# Altium footprint library 0533980471.PcbLib: 1 footprints
Each footprint in its own frame and in the unit in brackets; x right, y up, seen from the top. Pads: shape width x height; smd on the part's side, far side on the other; paste and mask are expansions set on the pad; w line width, h text height; cw(c..) or ccw(c..) is an arc to the next point about the centre after c.
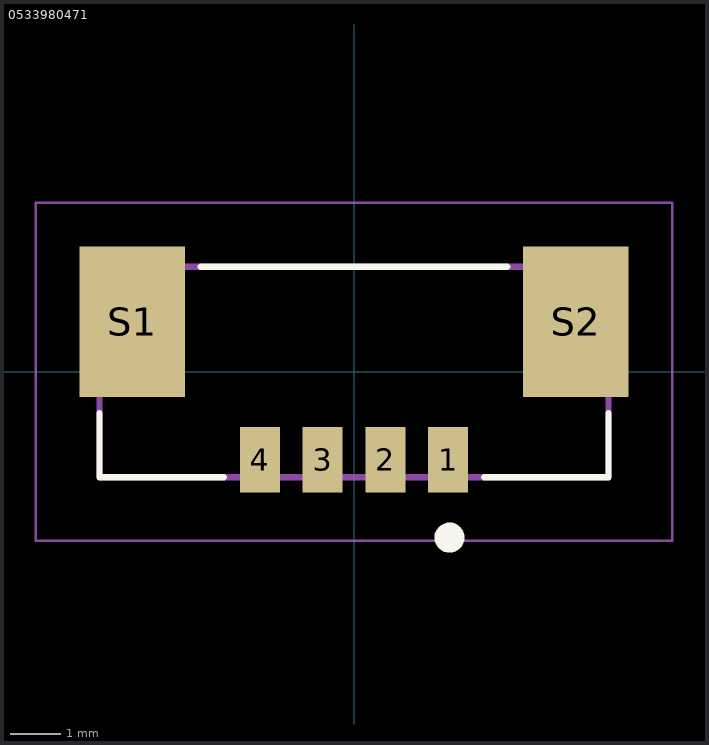
[diagram p0: the footprint, top view; thin cyan lines are the x and y axes]

## 0533980471 [mm]
pads (6):
  rect 0.8x1.3 smd mask+0.076: 1(1.875,-1.75) 2(0.625,-1.75) 3(-0.625,-1.75) 4(-1.875,-1.75)
  rect 2.1x3 smd mask+0.076: S1(-4.425,1) S2(4.425,1)
Top Overlay:
  circle w0.3: c1.905,-3.302 r0.15
  lines w0.127: -5.075,-0.82 -5.075,-2.1 -2.595,-2.1 ; -3.055,2.1 3.055,2.1 ; 2.595,-2.1 5.075,-2.1 5.075,-0.82
Top 3D Body:
  lines w0.127: -5.075,-2.1 5.075,-2.1 5.075,2.1 -5.075,2.1 -5.075,-2.1
Top Courtyard:
  lines w0.05: -6.345,-3.37 -6.345,3.37 6.345,3.37 6.345,-3.37 -6.345,-3.37
3D body "533980471.step": height 4.71, standoff -0.03, extent -5.075,-2.092 5.075,2.108